# Altium schematic symbol library C4532X7R1H685M.Schlib: 1 symbol
Pins are listed as number, name and electrical type; pins without a type are passive.

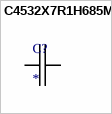
[diagram p0: symbol C4532X7R1H685M]

## C4532X7R1H685M
designator C?
Capacitor, Ceramic, 0.1uF, 16VDC, 20-% Tol, 80+% Tol, Y5V-TC Code, -82, 22%-TC
pins: 1, 2